# Altium integrated library Linear Technology Power Management Switching Regulator LTC1174-LTC3901.IntLib: 2647 symbols (part 78 of 364)
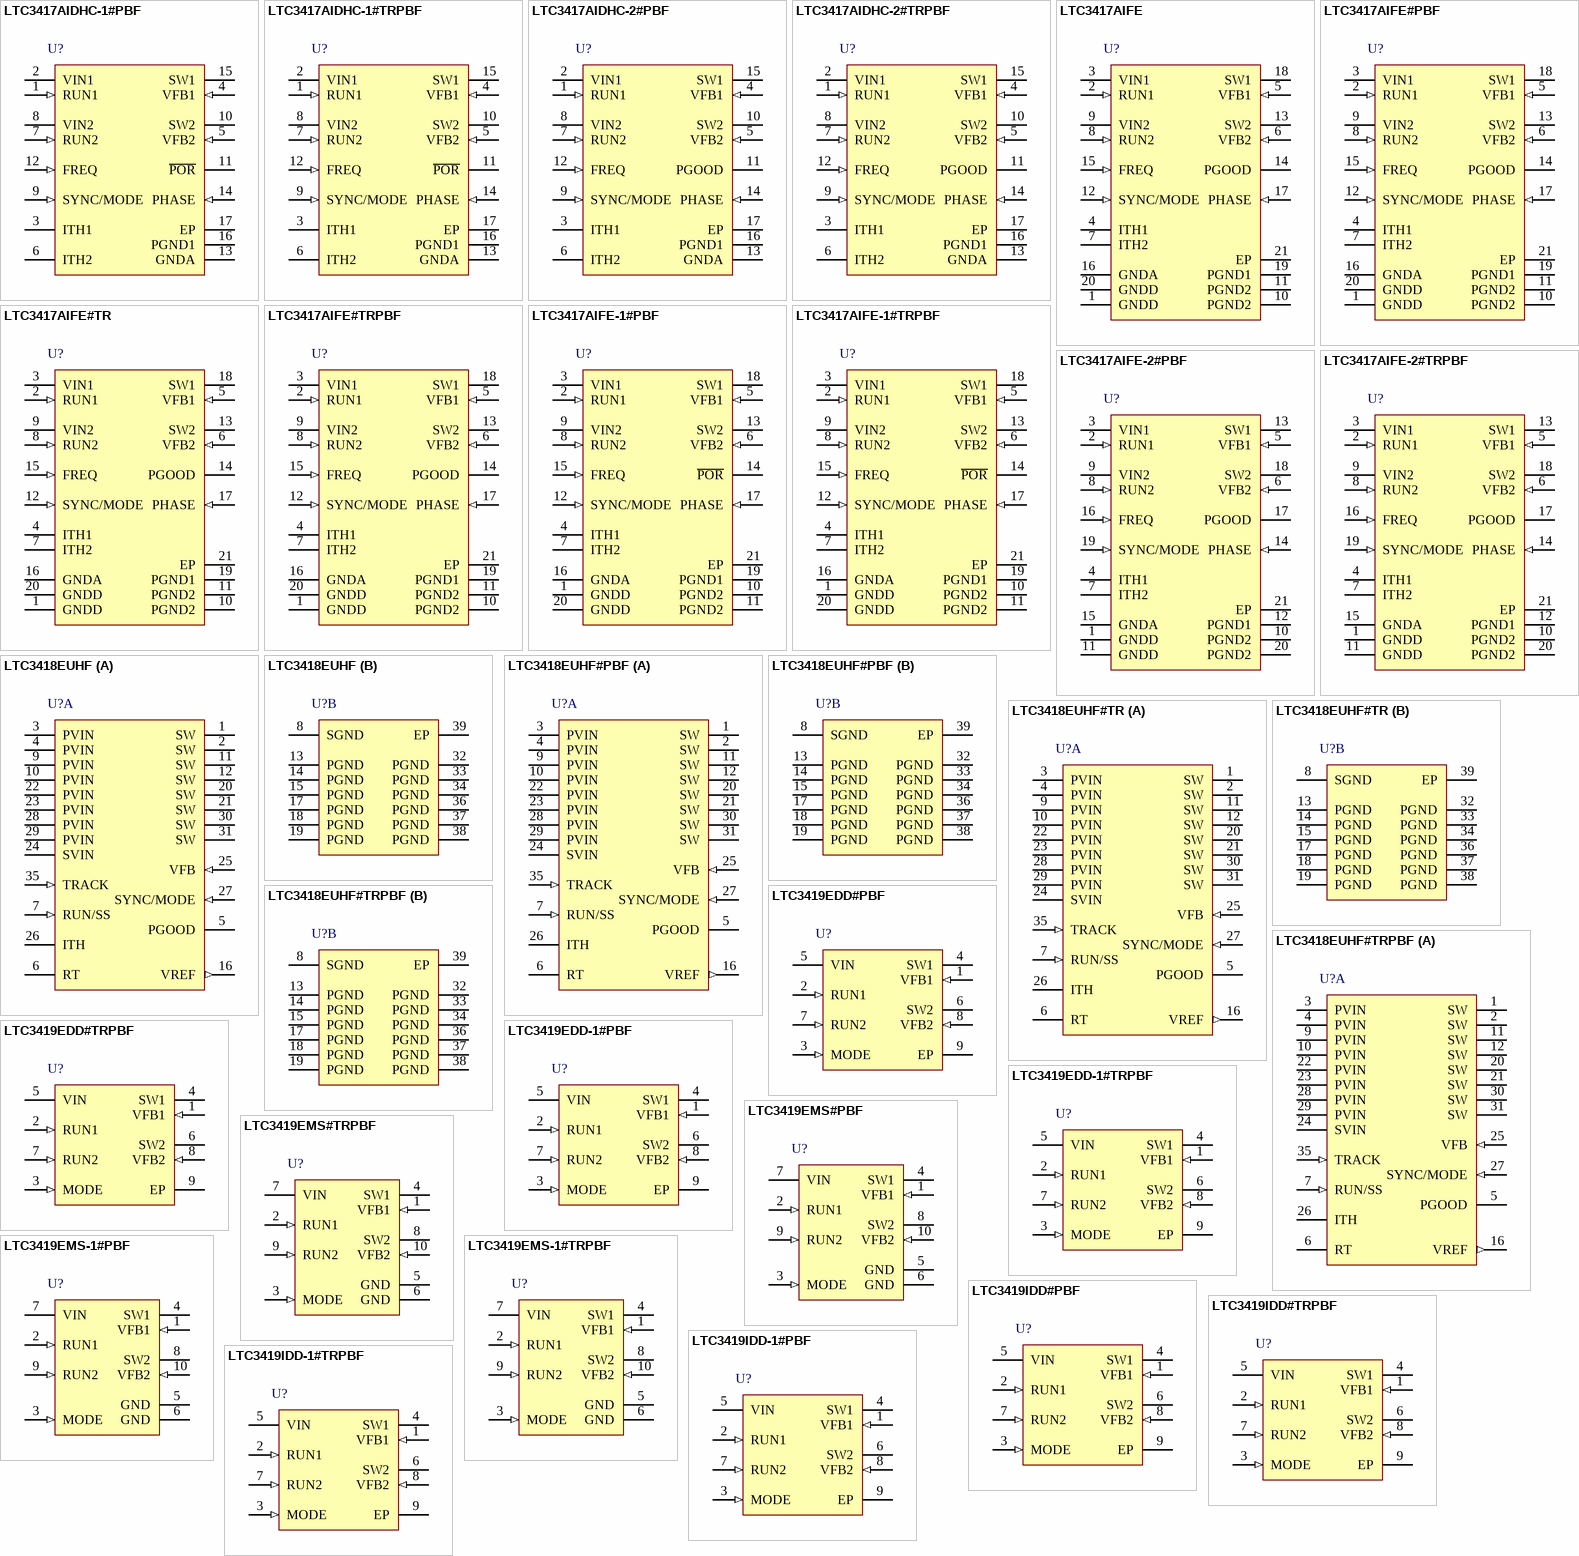
[diagram p155: symbols LTC3417AIDHC-1#PBF to LTC3419IDD-1#TRPBF]

## LTC3417AIDHC-2#TRPBF
designator U?
Dual Synchronous 1.5 A / 1 A 4 MHz Step-Down DC/DC Regulator, 16-pin SON (DHC-16), -40 to 125 degC, Pb-Free, Tape and Reel; Manufacturer: Linear Technology; PartNumber: LTC3417AIDHC-2#TRPBF; Frequency Sync Range: 600kHz - 4MHz; Number of Outputs: 2; DatasheetVersion: Rev. A; PackageVersion: Jun-10; PackageReference: DHC-16; PackageDescription: 16-Pin Plastic DFN, Body 5 x 3 mm, Pitch 0.5 mm; Supplier 1: Digi-Key; Supplier Part Number 1: LTC3417AIDHC-2#TRPBF-ND; Packing: Tape and Reel; RoHS: TRUE; Mounting Technology: Surface Mount; Code_JEDEC: MO-229; ComponentLink1Description: Manufacturer URL; ComponentLink1URL: http://www.linear.com/; ComponentLink2Description: Datasheet; ComponentLink2URL: http://cds.linear.com/docs/en/datasheet/3417a2fa.pdf; ComponentLink3Description: Package Specification; ComponentLink3URL: http://cds.linear.com/docs/en/packaging/DFN_16_05-08-1706.pdf
footprint LT-DHC-16_V (SON, 16-Leads, Body 5x3mm, Pitch 0.5mm, Thermal Pad 4.4X1.65mm)
pins: 1 RUN1 (in) "Enable for 1.5A Regulator. When at Logic 1, 1.5A regulator is running. When at 0V, 1.5A regulator is off. When both RUN1 and RUN2 are at 0V, the part is in shutdown.", 2 VIN1 (power) "Supply Pin for P-Channel Switch of 1.5A Regulator.", 3 ITH1 "Error Amplifier Compensation Point for 1.5A Regulator. The current comparator threshold increases with this control voltage. Nominal voltage range for this pin is 0V to 1.5V.", 4 VFB1 (in) "Receives the feedback voltage from external resistive divider across the 1.5A regulator output. Nominal voltage for this pin is 0.8V.", 5 VFB2 (in) "Receives the feedback voltage from external resistive divider across the 1A regulator output. Nominal voltage for this pin is 0.8V.", 6 ITH2 "Error Amplifier Compensation Point for 1A regulator. The current comparator threshold increases with this control voltage. Nominal voltage range for this pin is 0V to 1.5V.", 7 RUN2 (in) "Enable for 1A Regulator. When at Logic 1, 1A regulator is running. When at 0V, 1A regulator is off. When both RUN1 and RUN2 are at 0V, the part is in shutdown.", 8 VIN2 (power) "Supply Pin for P-Channel Switch of 1A Regulator and Supply for Analog Circuitry.", 9 SYNC/MODE (in) "Combination Mode Selection and Oscillator Synchronization Pin. This pin controls the operation of the device. When the voltage on the SYNC/MODE pin is >(VIN- 0.5V), Burst Mode operation is selected. When the voltage on the (See Datasheet)", 10 SW2 (power) "Switch Node Connection to the Inductor for the 1A Regulator. This pin swings from VIN2 to PGND2.", 11 PGOOD (oc) "Power Good Pin. This common drain-logic output is pulled to GND when the output voltage of either regulator is -6% below regulation. If either RUN1 or RUN2 is low (the respective regulator is in sleep mode and therefore the (See Datasheet)", 12 FREQ (in) "Frequency Set Pin. When FREQ is at VIN, internal oscillator runs at 1.5MHz. When a resistor is connected from this pin to ground, the internal oscillator frequency can be varied from 0.6MHz to 4MHz.", 13 GNDA (power) "Analog Ground Pin for Internal Analog Circuitry.", 14 PHASE (in) "Selects 1A regulator switching phase with respect to 1.5A regulator switching. Set to VIN, the 1.5A regulator and the 1A regulator are in phase. When PHASE is at 0V, the 1.5A regulator and the 1A regulator are switching 180 (See Datasheet)", 15 SW1 (power) "Switch Node Connection to the Inductor for the 1.5A Regulator. This pin swings from VIN1 to PGND1.", 16 PGND1 (power) "Ground for SW1 N-Channel Driver.", 17 EP (power) "Ground for SW2 N-channel driver and digital ground for circuit. The Exposed Pad must be soldered to PCB ground."

## LTC3417AIFE
designator U?
Dual Synchronous 1.5 A / 1 A 4 MHz Step-Down DC/DC Regulator, 20-pin SOP (FE-20-EPV-CA), -40 to 85 degC; Manufacturer: Linear Technology; PartNumber: LTC3417AIFE; Number of Outputs: 2; DatasheetVersion: Rev. C; PackageVersion: Rev. I, 05/2011; PackageReference: FE-20; PackageDescription: 20-Pin Plastic TSSOP, Body 6.5 x 4.4 mm, Pitch 0.65 mm; RoHS: FALSE; Mounting Technology: Surface Mount; ComponentLink1Description: Manufacturer URL; ComponentLink1URL: http://www.linear.com/; ComponentLink2Description: Datasheet; ComponentLink2URL: http://cds.linear.com/docs/en/datasheet/3417afc.pdf; ComponentLink3Description: Package Specification; ComponentLink3URL: http://cds.linear.com/docs/en/packaging/05081663__JFE20(CA).pdf
footprint LT-FE-20-EPV-CA_N (SOP, 20-Leads, Body 6.6x4.5mm, Pitch 0.65mm, Thermal Pad 4.95x2.74mm, IPC Medium Density)
footprint LT-FE-20-EPV-CA_L (SOP, 20-Leads, Body 6.6x4.5mm, Pitch 0.65mm, Thermal Pad 4.95x2.74mm, IPC High Density)
footprint LT-FE-20-EPV-CA_M (SOP, 20-Leads, Body 6.6x4.5mm, Pitch 0.65mm, Thermal Pad 4.95x2.74mm, IPC Low Density)
pins: 1 GNDD (power) "TSSOP Package Only. Ground for SW2 N-channel driver and digital ground for circuit.", 2 RUN1 (in) "Enable for 1.5A Regulator. When at Logic 1, 1.5A regulator is running. When at 0V, 1.5A regulator is off. When both RUN1 and RUN2 are at 0V, the part is in shutdown.", 3 VIN1 (power) "Supply Pin for P-Channel Switch of 1.5A Regulator.", 4 ITH1 "Error Amplifier Compensation Point for 1.5A Regulator. The current comparator threshold increases with this control voltage. Nominal voltage range for this pin is 0V to 1.5V.", 5 VFB1 (in) "Receives the feedback voltage from external resistive divider across the 1.5A regulator output. Nominal voltage for this pin is 0.8V", 6 VFB2 (in) "Receives the feedback voltage from external resistive divider across the 1A regulator output. Nominal voltage for this pin is 0.8V.", 7 ITH2 "Error Amplifier Compensation Point for 1A regulator. The current comparator threshold increases with this control voltage. Nominal voltage range for this pin is 0V to 1.5V.", 8 RUN2 (in) "Enable for 1A Regulator. When at Logic 1, 1A regulator is running. When at 0V, 1A regulator is off. When both RUN1 and RUN2 are at 0V, the part is in shutdown", 9 VIN2 (power) "Supply Pin for P-Channel Switch of 1A Regulator and Supply for Analog Circuitry.", 10 PGND2 (power) "TSSOP Package Only. Ground for SW2 N-channel driver and digital ground for circuit.", 11 PGND2 (power) "TSSOP Package Only. Ground for SW2 N-channel driver and digital ground for circuit.", 12 SYNC/MODE (in) "Combination Mode Selection and Oscillator Synchronization Pin. This pin controls the operation of the device. When the voltage on the SYNC/MODE pin is >(VIN - 0.5V), Burst Mode operation is selected. When the voltage on the (See Datasheet)", 13 SW2 (power) "Switch Node Connection to the Inductor for the 1A Regulator. This pin swings from VIN2 to PGND2.", 14 PGOOD (oc) "Power Good Pin. This common drain-logic output is pulled to GND when the output voltage of either regulator is - 6% of regulation. If either RUN1 or RUN2 is low (the respective regulator is in sleep mode and therefore the (See Datasheet)", 15 FREQ (in) "Frequency Set Pin. When FREQ is at VIN, internal oscillator runs at 1.5MHz. When a resistor is connected from this pin to ground, the internal oscillator frequency can be varied from 0.6MHz to 4MHz.", 16 GNDA (power) "Analog Ground Pin for Internal Analog Circuitry.", 17 PHASE (in) "Selects 1A regulator switching phase with respect to 1.5A regulator switching. Set to VIN, the 1.5A regulator and the 1A regulator are in phase. When PHASE is at 0V, the 1.5A regulator and the 1A regulator are switching 180 (See Datasheet)", 18 SW1 (power) "Switch Node Connection to the Inductor for the 1.5A Regulator. This pin swings from VIN1 to PGND1.", 19 PGND1 (power) "Ground for SW1 N-Channel Driver.", 20 GNDD (power) "TSSOP Package Only. Ground for SW2 N-channel driver and digital ground for circuit.", 21 EP (power) "PGND2, GNDD. Ground for SW2 N-channel driver and digital ground for circuit. The Exposed Pad must be soldered to PCB ground."

## LTC3417AIFE#PBF
designator U?
Dual Synchronous 1.5 A / 1 A 4 MHz Step-Down DC/DC Regulator, 20-pin SOP (FE-20-EPV-CA), -40 to 85 degC, Pb-Free; Manufacturer: Linear Technology; PartNumber: LTC3417AIFE#PBF; Number of Outputs: 2; DatasheetVersion: Rev. C; PackageVersion: Rev. I, 05/2011; PackageReference: FE-20; PackageDescription: 20-Pin Plastic TSSOP, Body 6.5 x 4.4 mm, Pitch 0.65 mm; Supplier 1: Digi-Key; Supplier Part Number 1: LTC3417AIFE#PBF-ND; Supplier 2: Newark; Supplier Part Number 2: 56M7733; RoHS: TRUE; Mounting Technology: Surface Mount; ComponentLink1Description: Manufacturer URL; ComponentLink1URL: http://www.linear.com/; ComponentLink2Description: Datasheet; ComponentLink2URL: http://cds.linear.com/docs/en/datasheet/3417afc.pdf; ComponentLink3Description: Package Specification; ComponentLink3URL: http://cds.linear.com/docs/en/packaging/05081663__JFE20(CA).pdf
footprint LT-FE-20-EPV-CA_N (SOP, 20-Leads, Body 6.6x4.5mm, Pitch 0.65mm, Thermal Pad 4.95x2.74mm, IPC Medium Density)
footprint LT-FE-20-EPV-CA_L (SOP, 20-Leads, Body 6.6x4.5mm, Pitch 0.65mm, Thermal Pad 4.95x2.74mm, IPC High Density)
footprint LT-FE-20-EPV-CA_M (SOP, 20-Leads, Body 6.6x4.5mm, Pitch 0.65mm, Thermal Pad 4.95x2.74mm, IPC Low Density)
pins: 1 GNDD (power) "TSSOP Package Only. Ground for SW2 N-channel driver and digital ground for circuit.", 2 RUN1 (in) "Enable for 1.5A Regulator. When at Logic 1, 1.5A regulator is running. When at 0V, 1.5A regulator is off. When both RUN1 and RUN2 are at 0V, the part is in shutdown.", 3 VIN1 (power) "Supply Pin for P-Channel Switch of 1.5A Regulator.", 4 ITH1 "Error Amplifier Compensation Point for 1.5A Regulator. The current comparator threshold increases with this control voltage. Nominal voltage range for this pin is 0V to 1.5V.", 5 VFB1 (in) "Receives the feedback voltage from external resistive divider across the 1.5A regulator output. Nominal voltage for this pin is 0.8V", 6 VFB2 (in) "Receives the feedback voltage from external resistive divider across the 1A regulator output. Nominal voltage for this pin is 0.8V.", 7 ITH2 "Error Amplifier Compensation Point for 1A regulator. The current comparator threshold increases with this control voltage. Nominal voltage range for this pin is 0V to 1.5V.", 8 RUN2 (in) "Enable for 1A Regulator. When at Logic 1, 1A regulator is running. When at 0V, 1A regulator is off. When both RUN1 and RUN2 are at 0V, the part is in shutdown", 9 VIN2 (power) "Supply Pin for P-Channel Switch of 1A Regulator and Supply for Analog Circuitry.", 10 PGND2 (power) "TSSOP Package Only. Ground for SW2 N-channel driver and digital ground for circuit.", 11 PGND2 (power) "TSSOP Package Only. Ground for SW2 N-channel driver and digital ground for circuit.", 12 SYNC/MODE (in) "Combination Mode Selection and Oscillator Synchronization Pin. This pin controls the operation of the device. When the voltage on the SYNC/MODE pin is >(VIN - 0.5V), Burst Mode operation is selected. When the voltage on the (See Datasheet)", 13 SW2 (power) "Switch Node Connection to the Inductor for the 1A Regulator. This pin swings from VIN2 to PGND2.", 14 PGOOD (oc) "Power Good Pin. This common drain-logic output is pulled to GND when the output voltage of either regulator is - 6% of regulation. If either RUN1 or RUN2 is low (the respective regulator is in sleep mode and therefore the (See Datasheet)", 15 FREQ (in) "Frequency Set Pin. When FREQ is at VIN, internal oscillator runs at 1.5MHz. When a resistor is connected from this pin to ground, the internal oscillator frequency can be varied from 0.6MHz to 4MHz.", 16 GNDA (power) "Analog Ground Pin for Internal Analog Circuitry.", 17 PHASE (in) "Selects 1A regulator switching phase with respect to 1.5A regulator switching. Set to VIN, the 1.5A regulator and the 1A regulator are in phase. When PHASE is at 0V, the 1.5A regulator and the 1A regulator are switching 180 (See Datasheet)", 18 SW1 (power) "Switch Node Connection to the Inductor for the 1.5A Regulator. This pin swings from VIN1 to PGND1.", 19 PGND1 (power) "Ground for SW1 N-Channel Driver.", 20 GNDD (power) "TSSOP Package Only. Ground for SW2 N-channel driver and digital ground for circuit.", 21 EP (power) "PGND2, GNDD. Ground for SW2 N-channel driver and digital ground for circuit. The Exposed Pad must be soldered to PCB ground."

## LTC3417AIFE#TR
designator U?
Dual Synchronous 1.5 A / 1 A 4 MHz Step-Down DC/DC Regulator, 20-pin SOP (FE-20-EPV-CA), -40 to 85 degC, Tape and Reel; Manufacturer: Linear Technology; PartNumber: LTC3417AIFE#TR; Number of Outputs: 2; DatasheetVersion: Rev. C; PackageVersion: Rev. I, 05/2011; PackageReference: FE-20; PackageDescription: 20-Pin Plastic TSSOP, Body 6.5 x 4.4 mm, Pitch 0.65 mm; Packing: Tape and Reel; RoHS: FALSE; Mounting Technology: Surface Mount; ComponentLink1Description: Manufacturer URL; ComponentLink1URL: http://www.linear.com/; ComponentLink2Description: Datasheet; ComponentLink2URL: http://cds.linear.com/docs/en/datasheet/3417afc.pdf; ComponentLink3Description: Package Specification; ComponentLink3URL: http://cds.linear.com/docs/en/packaging/05081663__JFE20(CA).pdf
footprint LT-FE-20-EPV-CA_N (SOP, 20-Leads, Body 6.6x4.5mm, Pitch 0.65mm, Thermal Pad 4.95x2.74mm, IPC Medium Density)
footprint LT-FE-20-EPV-CA_L (SOP, 20-Leads, Body 6.6x4.5mm, Pitch 0.65mm, Thermal Pad 4.95x2.74mm, IPC High Density)
footprint LT-FE-20-EPV-CA_M (SOP, 20-Leads, Body 6.6x4.5mm, Pitch 0.65mm, Thermal Pad 4.95x2.74mm, IPC Low Density)
pins: 1 GNDD (power) "TSSOP Package Only. Ground for SW2 N-channel driver and digital ground for circuit.", 2 RUN1 (in) "Enable for 1.5A Regulator. When at Logic 1, 1.5A regulator is running. When at 0V, 1.5A regulator is off. When both RUN1 and RUN2 are at 0V, the part is in shutdown.", 3 VIN1 (power) "Supply Pin for P-Channel Switch of 1.5A Regulator.", 4 ITH1 "Error Amplifier Compensation Point for 1.5A Regulator. The current comparator threshold increases with this control voltage. Nominal voltage range for this pin is 0V to 1.5V.", 5 VFB1 (in) "Receives the feedback voltage from external resistive divider across the 1.5A regulator output. Nominal voltage for this pin is 0.8V", 6 VFB2 (in) "Receives the feedback voltage from external resistive divider across the 1A regulator output. Nominal voltage for this pin is 0.8V.", 7 ITH2 "Error Amplifier Compensation Point for 1A regulator. The current comparator threshold increases with this control voltage. Nominal voltage range for this pin is 0V to 1.5V.", 8 RUN2 (in) "Enable for 1A Regulator. When at Logic 1, 1A regulator is running. When at 0V, 1A regulator is off. When both RUN1 and RUN2 are at 0V, the part is in shutdown", 9 VIN2 (power) "Supply Pin for P-Channel Switch of 1A Regulator and Supply for Analog Circuitry.", 10 PGND2 (power) "TSSOP Package Only. Ground for SW2 N-channel driver and digital ground for circuit.", 11 PGND2 (power) "TSSOP Package Only. Ground for SW2 N-channel driver and digital ground for circuit.", 12 SYNC/MODE (in) "Combination Mode Selection and Oscillator Synchronization Pin. This pin controls the operation of the device. When the voltage on the SYNC/MODE pin is >(VIN - 0.5V), Burst Mode operation is selected. When the voltage on the (See Datasheet)", 13 SW2 (power) "Switch Node Connection to the Inductor for the 1A Regulator. This pin swings from VIN2 to PGND2.", 14 PGOOD (oc) "Power Good Pin. This common drain-logic output is pulled to GND when the output voltage of either regulator is - 6% of regulation. If either RUN1 or RUN2 is low (the respective regulator is in sleep mode and therefore the (See Datasheet)", 15 FREQ (in) "Frequency Set Pin. When FREQ is at VIN, internal oscillator runs at 1.5MHz. When a resistor is connected from this pin to ground, the internal oscillator frequency can be varied from 0.6MHz to 4MHz.", 16 GNDA (power) "Analog Ground Pin for Internal Analog Circuitry.", 17 PHASE (in) "Selects 1A regulator switching phase with respect to 1.5A regulator switching. Set to VIN, the 1.5A regulator and the 1A regulator are in phase. When PHASE is at 0V, the 1.5A regulator and the 1A regulator are switching 180 (See Datasheet)", 18 SW1 (power) "Switch Node Connection to the Inductor for the 1.5A Regulator. This pin swings from VIN1 to PGND1.", 19 PGND1 (power) "Ground for SW1 N-Channel Driver.", 20 GNDD (power) "TSSOP Package Only. Ground for SW2 N-channel driver and digital ground for circuit.", 21 EP (power) "PGND2, GNDD. Ground for SW2 N-channel driver and digital ground for circuit. The Exposed Pad must be soldered to PCB ground."

## LTC3417AIFE#TRPBF
designator U?
Dual Synchronous 1.5 A / 1 A 4 MHz Step-Down DC/DC Regulator, 20-pin SOP (FE-20-EPV-CA), -40 to 85 degC, Pb-Free, Tape and Reel; Manufacturer: Linear Technology; PartNumber: LTC3417AIFE#TRPBF; Number of Outputs: 2; DatasheetVersion: Rev. C; PackageVersion: Rev. I, 05/2011; PackageReference: FE-20; PackageDescription: 20-Pin Plastic TSSOP, Body 6.5 x 4.4 mm, Pitch 0.65 mm; Supplier 1: Digi-Key; Supplier Part Number 1: LTC3417AIFE#TRPBF-ND; Packing: Tape and Reel; RoHS: TRUE; Mounting Technology: Surface Mount; ComponentLink1Description: Manufacturer URL; ComponentLink1URL: http://www.linear.com/; ComponentLink2Description: Datasheet; ComponentLink2URL: http://cds.linear.com/docs/en/datasheet/3417afc.pdf; ComponentLink3Description: Package Specification; ComponentLink3URL: http://cds.linear.com/docs/en/packaging/05081663__JFE20(CA).pdf
footprint LT-FE-20-EPV-CA_N (SOP, 20-Leads, Body 6.6x4.5mm, Pitch 0.65mm, Thermal Pad 4.95x2.74mm, IPC Medium Density)
footprint LT-FE-20-EPV-CA_L (SOP, 20-Leads, Body 6.6x4.5mm, Pitch 0.65mm, Thermal Pad 4.95x2.74mm, IPC High Density)
footprint LT-FE-20-EPV-CA_M (SOP, 20-Leads, Body 6.6x4.5mm, Pitch 0.65mm, Thermal Pad 4.95x2.74mm, IPC Low Density)
pins: 1 GNDD (power) "TSSOP Package Only. Ground for SW2 N-channel driver and digital ground for circuit.", 2 RUN1 (in) "Enable for 1.5A Regulator. When at Logic 1, 1.5A regulator is running. When at 0V, 1.5A regulator is off. When both RUN1 and RUN2 are at 0V, the part is in shutdown.", 3 VIN1 (power) "Supply Pin for P-Channel Switch of 1.5A Regulator.", 4 ITH1 "Error Amplifier Compensation Point for 1.5A Regulator. The current comparator threshold increases with this control voltage. Nominal voltage range for this pin is 0V to 1.5V.", 5 VFB1 (in) "Receives the feedback voltage from external resistive divider across the 1.5A regulator output. Nominal voltage for this pin is 0.8V", 6 VFB2 (in) "Receives the feedback voltage from external resistive divider across the 1A regulator output. Nominal voltage for this pin is 0.8V.", 7 ITH2 "Error Amplifier Compensation Point for 1A regulator. The current comparator threshold increases with this control voltage. Nominal voltage range for this pin is 0V to 1.5V.", 8 RUN2 (in) "Enable for 1A Regulator. When at Logic 1, 1A regulator is running. When at 0V, 1A regulator is off. When both RUN1 and RUN2 are at 0V, the part is in shutdown", 9 VIN2 (power) "Supply Pin for P-Channel Switch of 1A Regulator and Supply for Analog Circuitry.", 10 PGND2 (power) "TSSOP Package Only. Ground for SW2 N-channel driver and digital ground for circuit.", 11 PGND2 (power) "TSSOP Package Only. Ground for SW2 N-channel driver and digital ground for circuit.", 12 SYNC/MODE (in) "Combination Mode Selection and Oscillator Synchronization Pin. This pin controls the operation of the device. When the voltage on the SYNC/MODE pin is >(VIN - 0.5V), Burst Mode operation is selected. When the voltage on the (See Datasheet)", 13 SW2 (power) "Switch Node Connection to the Inductor for the 1A Regulator. This pin swings from VIN2 to PGND2.", 14 PGOOD (oc) "Power Good Pin. This common drain-logic output is pulled to GND when the output voltage of either regulator is - 6% of regulation. If either RUN1 or RUN2 is low (the respective regulator is in sleep mode and therefore the (See Datasheet)", 15 FREQ (in) "Frequency Set Pin. When FREQ is at VIN, internal oscillator runs at 1.5MHz. When a resistor is connected from this pin to ground, the internal oscillator frequency can be varied from 0.6MHz to 4MHz.", 16 GNDA (power) "Analog Ground Pin for Internal Analog Circuitry.", 17 PHASE (in) "Selects 1A regulator switching phase with respect to 1.5A regulator switching. Set to VIN, the 1.5A regulator and the 1A regulator are in phase. When PHASE is at 0V, the 1.5A regulator and the 1A regulator are switching 180 (See Datasheet)", 18 SW1 (power) "Switch Node Connection to the Inductor for the 1.5A Regulator. This pin swings from VIN1 to PGND1.", 19 PGND1 (power) "Ground for SW1 N-Channel Driver.", 20 GNDD (power) "TSSOP Package Only. Ground for SW2 N-channel driver and digital ground for circuit.", 21 EP (power) "PGND2, GNDD. Ground for SW2 N-channel driver and digital ground for circuit. The Exposed Pad must be soldered to PCB ground."

## LTC3417AIFE-1#PBF
designator U?
Dual Synchronous 1.5 A / 1 A 4 MHz Step-Down DC/DC Regulator with POR, 20-pin SOP (FE-20-EPV-CA), -40 to 125 degC, Pb-Free; Manufacturer: Linear Technology; PartNumber: LTC3417AIFE-1#PBF; Frequency Sync Range: 600kHz - 4MHz; Number of Outputs: 2; DatasheetVersion: Rev. A; PackageVersion: Rev. I, 05/2011; PackageReference: FE-20; PackageDescription: 20-Pin Plastic TSSOP, Body 6.5 x 4.4 mm, Pitch 0.65 mm; Supplier 1: Digi-Key; Supplier Part Number 1: LTC3417AIFE-1#PBF-ND; RoHS: TRUE; Mounting Technology: Surface Mount; ComponentLink1Description: Manufacturer URL; ComponentLink1URL: http://www.linear.com/; ComponentLink2Description: Datasheet; ComponentLink2URL: http://cds.linear.com/docs/en/datasheet/3417a1fa.pdf; ComponentLink3Description: Package Specification; ComponentLink3URL: http://cds.linear.com/docs/en/packaging/05081663__JFE20(CA).pdf
footprint LT-FE-20-EPV-CA_N (SOP, 20-Leads, Body 6.6x4.5mm, Pitch 0.65mm, Thermal Pad 4.95x2.74mm, IPC Medium Density)
footprint LT-FE-20-EPV-CA_L (SOP, 20-Leads, Body 6.6x4.5mm, Pitch 0.65mm, Thermal Pad 4.95x2.74mm, IPC High Density)
footprint LT-FE-20-EPV-CA_M (SOP, 20-Leads, Body 6.6x4.5mm, Pitch 0.65mm, Thermal Pad 4.95x2.74mm, IPC Low Density)
pins: 1 GNDD (power) "TSSOP Package Only. Ground for SW2 N-channel driver and digital ground for circuit.", 2 RUN1 (in) "Enable for 1.5A Regulator. When at Logic 1, 1.5A regulator is running. When at 0V, 1.5A regulator is off. When both RUN1 and RUN2 are at 0V, the part is in shutdown.", 3 VIN1 (power) "Supply Pin for P-Channel Switch of 1.5A Regulator.", 4 ITH1 "Error Amplifier Compensation Point for 1.5A Regulator. The current comparator threshold increases with this control voltage. Nominal voltage range for this pin is 0V to 1.5V.", 5 VFB1 (in) "Receives the feedback voltage from external resistive divider across the 1.5A regulator output. Nominal voltage for this pin is 0.8V.", 6 VFB2 (in) "Receives the feedback voltage from external resistive divider across the 1A regulator output. Nominal voltage for this pin is 0.8V.", 7 ITH2 "Error Amplifier Compensation Point for 1A regulator. The current comparator threshold increases with this control voltage. Nominal voltage range for this pin is 0V to 1.5V.", 8 RUN2 (in) "Enable for 1A Regulator. When at Logic 1, 1A regulator is running. When at 0V, 1A regulator is off. When both RUN1 and RUN2 are at 0V, the part is in shutdown.", 9 VIN2 (power) "Supply Pin for P-Channel Switch of 1A Regulator and Supply for Analog Circuitry.", 10 PGND2 (power) "TSSOP Package Only. Ground for SW2 N-channel driver and digital ground for circuit.", 11 PGND2 (power) "TSSOP Package Only. Ground for SW2 N-channel driver and digital ground for circuit.", 12 SYNC/MODE (in) "Combination Mode Selection and Oscillator Synchronization Pin. This pin controls the operation of the device. When the voltage on the SYNC/MODE pin is >(VIN - 0.5V), Burst Mode operation is selected. When the voltage on the (See Datasheet)", 13 SW2 (power) "Switch Node Connection to the Inductor for the 1A Regulator. This pin swings from VIN2 to PGND2.", 14 ~{POR} (oc) "The Power-On-Reset Pin. This open drain-logic output is pulled to GND when the output voltage of either regulator falls 8% below regulation and goes high approximately 150ms after both regulators are above -6% of regulation. (See Datasheet)", 15 FREQ (in) "Frequency Set Pin. When FREQ is at VIN, internal oscillator runs at 1.5MHz. When a resistor is connected from this pin to ground, the internal oscillator frequency can be varied from 0.6MHz to 4MHz.", 16 GNDA (power) "Analog Ground Pin for Internal Analog Circuitry.", 17 PHASE (in) "Selects 1A regulator switching phase with respect to 1.5A regulator switching. Set to VIN, the 1.5A regulator and the 1A regulator are in phase. When PHASE is at 0V, the 1.5A regulator and the 1A regulator are switching 180 (See Datasheet)", 18 SW1 (power) "Switch Node Connection to the Inductor for the 1.5A Regulator. This pin swings from VIN1 to PGND1", 19 PGND1 (power) "Ground for SW1 N-Channel Driver.", 20 GNDD (power) "TSSOP Package Only. Ground for SW2 N-channel driver and digital ground for circuit.", 21 EP (power) "PGND2, GNDD. Ground for SW2 N-channel driver and digital ground for circuit. The Exposed Pad must be soldered to PCB ground"

## LTC3417AIFE-1#TRPBF
designator U?
Dual Synchronous 1.5 A / 1 A 4 MHz Step-Down DC/DC Regulator with POR, 20-pin SOP (FE-20-EPV-CA), -40 to 125 degC, Pb-Free, Tape and Reel; Manufacturer: Linear Technology; PartNumber: LTC3417AIFE-1#TRPBF; Frequency Sync Range: 600kHz - 4MHz; Number of Outputs: 2; DatasheetVersion: Rev. A; PackageVersion: Rev. I, 05/2011; PackageReference: FE-20; PackageDescription: 20-Pin Plastic TSSOP, Body 6.5 x 4.4 mm, Pitch 0.65 mm; Supplier 1: Digi-Key; Supplier Part Number 1: LTC3417AIFE-1#TRPBF-ND; Packing: Tape and Reel; RoHS: TRUE; Mounting Technology: Surface Mount; ComponentLink1Description: Manufacturer URL; ComponentLink1URL: http://www.linear.com/; ComponentLink2Description: Datasheet; ComponentLink2URL: http://cds.linear.com/docs/en/datasheet/3417a1fa.pdf; ComponentLink3Description: Package Specification; ComponentLink3URL: http://cds.linear.com/docs/en/packaging/05081663__JFE20(CA).pdf
footprint LT-FE-20-EPV-CA_N (SOP, 20-Leads, Body 6.6x4.5mm, Pitch 0.65mm, Thermal Pad 4.95x2.74mm, IPC Medium Density)
footprint LT-FE-20-EPV-CA_L (SOP, 20-Leads, Body 6.6x4.5mm, Pitch 0.65mm, Thermal Pad 4.95x2.74mm, IPC High Density)
footprint LT-FE-20-EPV-CA_M (SOP, 20-Leads, Body 6.6x4.5mm, Pitch 0.65mm, Thermal Pad 4.95x2.74mm, IPC Low Density)
pins: 1 GNDD (power) "TSSOP Package Only. Ground for SW2 N-channel driver and digital ground for circuit.", 2 RUN1 (in) "Enable for 1.5A Regulator. When at Logic 1, 1.5A regulator is running. When at 0V, 1.5A regulator is off. When both RUN1 and RUN2 are at 0V, the part is in shutdown.", 3 VIN1 (power) "Supply Pin for P-Channel Switch of 1.5A Regulator.", 4 ITH1 "Error Amplifier Compensation Point for 1.5A Regulator. The current comparator threshold increases with this control voltage. Nominal voltage range for this pin is 0V to 1.5V.", 5 VFB1 (in) "Receives the feedback voltage from external resistive divider across the 1.5A regulator output. Nominal voltage for this pin is 0.8V.", 6 VFB2 (in) "Receives the feedback voltage from external resistive divider across the 1A regulator output. Nominal voltage for this pin is 0.8V.", 7 ITH2 "Error Amplifier Compensation Point for 1A regulator. The current comparator threshold increases with this control voltage. Nominal voltage range for this pin is 0V to 1.5V.", 8 RUN2 (in) "Enable for 1A Regulator. When at Logic 1, 1A regulator is running. When at 0V, 1A regulator is off. When both RUN1 and RUN2 are at 0V, the part is in shutdown.", 9 VIN2 (power) "Supply Pin for P-Channel Switch of 1A Regulator and Supply for Analog Circuitry.", 10 PGND2 (power) "TSSOP Package Only. Ground for SW2 N-channel driver and digital ground for circuit.", 11 PGND2 (power) "TSSOP Package Only. Ground for SW2 N-channel driver and digital ground for circuit.", 12 SYNC/MODE (in) "Combination Mode Selection and Oscillator Synchronization Pin. This pin controls the operation of the device. When the voltage on the SYNC/MODE pin is >(VIN - 0.5V), Burst Mode operation is selected. When the voltage on the (See Datasheet)", 13 SW2 (power) "Switch Node Connection to the Inductor for the 1A Regulator. This pin swings from VIN2 to PGND2.", 14 ~{POR} (oc) "The Power-On-Reset Pin. This open drain-logic output is pulled to GND when the output voltage of either regulator falls 8% below regulation and goes high approximately 150ms after both regulators are above -6% of regulation. (See Datasheet)", 15 FREQ (in) "Frequency Set Pin. When FREQ is at VIN, internal oscillator runs at 1.5MHz. When a resistor is connected from this pin to ground, the internal oscillator frequency can be varied from 0.6MHz to 4MHz.", 16 GNDA (power) "Analog Ground Pin for Internal Analog Circuitry.", 17 PHASE (in) "Selects 1A regulator switching phase with respect to 1.5A regulator switching. Set to VIN, the 1.5A regulator and the 1A regulator are in phase. When PHASE is at 0V, the 1.5A regulator and the 1A regulator are switching 180 (See Datasheet)", 18 SW1 (power) "Switch Node Connection to the Inductor for the 1.5A Regulator. This pin swings from VIN1 to PGND1", 19 PGND1 (power) "Ground for SW1 N-Channel Driver.", 20 GNDD (power) "TSSOP Package Only. Ground for SW2 N-channel driver and digital ground for circuit.", 21 EP (power) "PGND2, GNDD. Ground for SW2 N-channel driver and digital ground for circuit. The Exposed Pad must be soldered to PCB ground"

## LTC3417AIFE-2#PBF
designator U?
Dual Synchronous 1.5 A / 1 A 4 MHz Step-Down DC/DC Regulator, 20-pin SOP (FE-20-EPV-CA), -40 to 125 degC, Pb-Free; Manufacturer: Linear Technology; PartNumber: LTC3417AIFE-2#PBF; Frequency Sync Range: 600kHz - 4MHz; Number of Outputs: 2; DatasheetVersion: Rev. A; PackageVersion: Rev. I, 05/2011; PackageReference: FE-20; PackageDescription: 20-Pin Plastic TSSOP, Body 6.5 x 4.4 mm, Pitch 0.65 mm; Supplier 1: Digi-Key; Supplier Part Number 1: LTC3417AIFE-2#PBF-ND; Supplier 2: Farnell; Supplier Part Number 2: 1628880; Supplier 3: Newark; Supplier Part Number 3: 95M6500; RoHS: TRUE; Mounting Technology: Surface Mount; ComponentLink1Description: Manufacturer URL; ComponentLink1URL: http://www.linear.com/; ComponentLink2Description: Datasheet; ComponentLink2URL: http://cds.linear.com/docs/en/datasheet/3417a2fa.pdf; ComponentLink3Description: Package Specification; ComponentLink3URL: http://cds.linear.com/docs/en/packaging/05081663__JFE20(CA).pdf
footprint LT-FE-20-EPV-CA_N (SOP, 20-Leads, Body 6.6x4.5mm, Pitch 0.65mm, Thermal Pad 4.95x2.74mm, IPC Medium Density)
footprint LT-FE-20-EPV-CA_L (SOP, 20-Leads, Body 6.6x4.5mm, Pitch 0.65mm, Thermal Pad 4.95x2.74mm, IPC High Density)
footprint LT-FE-20-EPV-CA_M (SOP, 20-Leads, Body 6.6x4.5mm, Pitch 0.65mm, Thermal Pad 4.95x2.74mm, IPC Low Density)
pins: 1 GNDD (power) "TSSOP Package Only. Ground for SW2 N-channel driver and digital ground for circuit.", 2 RUN1 (in) "Enable for 1.5A Regulator. When at Logic 1, 1.5A regulator is running. When at 0V, 1.5A regulator is off. When both RUN1 and RUN2 are at 0V, the part is in shutdown.", 3 VIN1 (power) "Supply Pin for P-Channel Switch of 1.5A Regulator.", 4 ITH1 "Error Amplifier Compensation Point for 1.5A Regulator. The current comparator threshold increases with this control voltage. Nominal voltage range for this pin is 0V to 1.5V.", 5 VFB1 (in) "Receives the feedback voltage from external resistive divider across the 1.5A regulator output. Nominal voltage for this pin is 0.8V.", 6 VFB2 (in) "Receives the feedback voltage from external resistive divider across the 1A regulator output. Nominal voltage for this pin is 0.8V.", 7 ITH2 "Error Amplifier Compensation Point for 1A regulator. The current comparator threshold increases with this control voltage. Nominal voltage range for this pin is 0V to 1.5V.", 8 RUN2 (in) "Enable for 1A Regulator. When at Logic 1, 1A regulator is running. When at 0V, 1A regulator is off. When both RUN1 and RUN2 are at 0V, the part is in shutdown", 9 VIN2 (power) "Supply Pin for P-Channel Switch of 1A Regulator and Supply for Analog Circuitry", 10 PGND2 (power) "TSSOP Package Only. Ground for SW2 N-channel driver and digital ground for circuit.", 11 GNDD (power) "TSSOP Package Only. Ground for SW2 N-channel driver and digital ground for circuit.", 12 PGND1 (power) "Ground for SW1 N-Channel Driver.", 13 SW1 (power) "Switch Node Connection to the Inductor for the 1.5A Regulator. This pin swings from VIN1 to PGND1.", 14 PHASE (in) "Selects 1A regulator switching phase with respect to 1.5A regulator switching. Set to VIN, the 1.5A regulator and the 1A regulator are in phase. When PHASE is at 0V, the 1.5A regulator and the 1A regulator are switching 180 (See Datasheet)", 15 GNDA (power) "Analog Ground Pin for Internal Analog Circuitry.", 16 FREQ (in) "Frequency Set Pin. When FREQ is at VIN, internal oscillator runs at 1.5MHz. When a resistor is connected from this pin to ground, the internal oscillator frequency can be varied from 0.6MHz to 4MHz.", 17 PGOOD (oc) "Power Good Pin. This common drain-logic output is pulled to GND when the output voltage of either regulator is -6% below regulation. If either RUN1 or RUN2 is low (the respective regulator is in sleep mode and therefore the (See Datasheet)", 18 SW2 (power) "Switch Node Connection to the Inductor for the 1A Regulator. This pin swings from VIN2 to PGND2.", 19 SYNC/MODE (in) "Combination Mode Selection and Oscillator Synchronization Pin. This pin controls the operation of the device. When the voltage on the SYNC/MODE pin is >(VIN - 0.5V), Burst Mode operation is selected. When the voltage on the (See Datasheet)", 20 PGND2 (power) "TSSOP Package Only. Ground for SW2 N-channel driver and digital ground for circuit.", 21 EP (power) "PGND2, GNDD. Ground for SW2 N-channel driver and digital ground for circuit. The Exposed Pad must be soldered to PCB ground."

## LTC3417AIFE-2#TRPBF
designator U?
Dual Synchronous 1.5 A / 1 A 4 MHz Step-Down DC/DC Regulator, 20-pin SOP (FE-20-EPV-CA), -40 to 125 degC, Pb-Free, Tape and Reel; Manufacturer: Linear Technology; PartNumber: LTC3417AIFE-2#TRPBF; Frequency Sync Range: 600kHz - 4MHz; Number of Outputs: 2; DatasheetVersion: Rev. A; PackageVersion: Rev. I, 05/2011; PackageReference: FE-20; PackageDescription: 20-Pin Plastic TSSOP, Body 6.5 x 4.4 mm, Pitch 0.65 mm; Supplier 1: Digi-Key; Supplier Part Number 1: LTC3417AIFE-2#TRPBF-ND; Packing: Tape and Reel; RoHS: TRUE; Mounting Technology: Surface Mount; ComponentLink1Description: Manufacturer URL; ComponentLink1URL: http://www.linear.com/; ComponentLink2Description: Datasheet; ComponentLink2URL: http://cds.linear.com/docs/en/datasheet/3417a2fa.pdf; ComponentLink3Description: Package Specification; ComponentLink3URL: http://cds.linear.com/docs/en/packaging/05081663__JFE20(CA).pdf
footprint LT-FE-20-EPV-CA_N (SOP, 20-Leads, Body 6.6x4.5mm, Pitch 0.65mm, Thermal Pad 4.95x2.74mm, IPC Medium Density)
footprint LT-FE-20-EPV-CA_L (SOP, 20-Leads, Body 6.6x4.5mm, Pitch 0.65mm, Thermal Pad 4.95x2.74mm, IPC High Density)
footprint LT-FE-20-EPV-CA_M (SOP, 20-Leads, Body 6.6x4.5mm, Pitch 0.65mm, Thermal Pad 4.95x2.74mm, IPC Low Density)
pins: 1 GNDD (power) "TSSOP Package Only. Ground for SW2 N-channel driver and digital ground for circuit.", 2 RUN1 (in) "Enable for 1.5A Regulator. When at Logic 1, 1.5A regulator is running. When at 0V, 1.5A regulator is off. When both RUN1 and RUN2 are at 0V, the part is in shutdown.", 3 VIN1 (power) "Supply Pin for P-Channel Switch of 1.5A Regulator.", 4 ITH1 "Error Amplifier Compensation Point for 1.5A Regulator. The current comparator threshold increases with this control voltage. Nominal voltage range for this pin is 0V to 1.5V.", 5 VFB1 (in) "Receives the feedback voltage from external resistive divider across the 1.5A regulator output. Nominal voltage for this pin is 0.8V.", 6 VFB2 (in) "Receives the feedback voltage from external resistive divider across the 1A regulator output. Nominal voltage for this pin is 0.8V.", 7 ITH2 "Error Amplifier Compensation Point for 1A regulator. The current comparator threshold increases with this control voltage. Nominal voltage range for this pin is 0V to 1.5V.", 8 RUN2 (in) "Enable for 1A Regulator. When at Logic 1, 1A regulator is running. When at 0V, 1A regulator is off. When both RUN1 and RUN2 are at 0V, the part is in shutdown", 9 VIN2 (power) "Supply Pin for P-Channel Switch of 1A Regulator and Supply for Analog Circuitry", 10 PGND2 (power) "TSSOP Package Only. Ground for SW2 N-channel driver and digital ground for circuit.", 11 GNDD (power) "TSSOP Package Only. Ground for SW2 N-channel driver and digital ground for circuit.", 12 PGND1 (power) "Ground for SW1 N-Channel Driver.", 13 SW1 (power) "Switch Node Connection to the Inductor for the 1.5A Regulator. This pin swings from VIN1 to PGND1.", 14 PHASE (in) "Selects 1A regulator switching phase with respect to 1.5A regulator switching. Set to VIN, the 1.5A regulator and the 1A regulator are in phase. When PHASE is at 0V, the 1.5A regulator and the 1A regulator are switching 180 (See Datasheet)", 15 GNDA (power) "Analog Ground Pin for Internal Analog Circuitry.", 16 FREQ (in) "Frequency Set Pin. When FREQ is at VIN, internal oscillator runs at 1.5MHz. When a resistor is connected from this pin to ground, the internal oscillator frequency can be varied from 0.6MHz to 4MHz.", 17 PGOOD (oc) "Power Good Pin. This common drain-logic output is pulled to GND when the output voltage of either regulator is -6% below regulation. If either RUN1 or RUN2 is low (the respective regulator is in sleep mode and therefore the (See Datasheet)", 18 SW2 (power) "Switch Node Connection to the Inductor for the 1A Regulator. This pin swings from VIN2 to PGND2.", 19 SYNC/MODE (in) "Combination Mode Selection and Oscillator Synchronization Pin. This pin controls the operation of the device. When the voltage on the SYNC/MODE pin is >(VIN - 0.5V), Burst Mode operation is selected. When the voltage on the (See Datasheet)", 20 PGND2 (power) "TSSOP Package Only. Ground for SW2 N-channel driver and digital ground for circuit.", 21 EP (power) "PGND2, GNDD. Ground for SW2 N-channel driver and digital ground for circuit. The Exposed Pad must be soldered to PCB ground."

## LTC3418EUHF
designator U?
8 A, 4 MHz, Monolithic Synchronous Step-Down Regulator, 38-pin QFN (UHF-38), -40 to 85 degC; Manufacturer: Linear Technology; PartNumber: LTC3418EUHF; Frequency Sync Range: 300kHz - 4MHz; Number of Outputs: 1; DatasheetVersion: Rev. B; PackageVersion: Rev. C, 06/2010; PackageReference: UHF-38; PackageDescription: 38-Pin Plastic QFN, Body 7 x 5 mm, Pitch 0.5 mm; RoHS: FALSE; Mounting Technology: Surface Mount; Code_JEDEC: MO-220; ComponentLink1Description: Manufacturer URL; ComponentLink1URL: http://www.linear.com/; ComponentLink2Description: Datasheet; ComponentLink2URL: http://cds.linear.com/docs/en/datasheet/3418fb.pdf; ComponentLink3Description: Package Specification; ComponentLink3URL: http://cds.linear.com/docs/en/packaging/QFN_38_05-08-1701.pdf
footprint LT-UHF-38_N (QFN, 38-Leads, Body 7.1x5.1mm, Pitch 0.5mm, Thermal Pad 3.15x5.15mm, IPC Medium Density)
footprint LT-UHF-38_L (QFN, 38-Leads, Body 7.1x5.1mm, Pitch 0.5mm, Thermal Pad 3.15x5.15mm, IPC High Density)
footprint LT-UHF-38_M (QFN, 38-Leads, Body 7.1x5.1mm, Pitch 0.5mm, Thermal Pad 3.15x5.15mm, IPC Low Density)
part A pins: 1 SW (power) "Switch Node Connection to Inductor. This pin connects to the drains of the internal main and synchronous power MOSFET switches.", 2 SW (power) "Switch Node Connection to Inductor. This pin connects to the drains of the internal main and synchronous power MOSFET switches.", 3 PVIN (power) "Power Input Supply. Decouple these pins to PGND with capacitors on all four corners of the package.", 4 PVIN (power) "Power Input Supply. Decouple these pins to PGND with capacitors on all four corners of the package.", 5 PGOOD (oc) "Power Good Output. Open-drain logic output that is pulled to ground when the output voltage is not within +/-7.5% of regulation point.", 6 RT "Oscillator Resistor Input. Connecting a resistor to ground from this pin sets the switching frequency.", 7 RUN/SS (in) "Run Control and Soft-Start Input. Forcing this pin below 0.5V shuts down the LTC3418. In shutdown all functions are disabled drawing <1.5uA of supply current. A capacitor to ground from this pin sets the ramp time to full (See Datasheet)", 9 PVIN (power) "Power Input Supply. Decouple these pins to PGND with capacitors on all four corners of the package.", 10 PVIN (power) "Power Input Supply. Decouple these pins to PGND with capacitors on all four corners of the package.", 11 SW (power) "Switch Node Connection to Inductor. This pin connects to the drains of the internal main and synchronous power MOSFET switches.", 12 SW (power) "Switch Node Connection to Inductor. This pin connects to the drains of the internal main and synchronous power MOSFET switches.", 16 VREF (out) "Reference Output. Decouple this pin with a 2.2uF capacitor.", 20 SW (power) "Switch Node Connection to Inductor. This pin connects to the drains of the internal main and synchronous power MOSFET switches.", 21 SW (power) "Switch Node Connection to Inductor. This pin connects to the drains of the internal main and synchronous power MOSFET switches.", 22 PVIN (power) "Power Input Supply. Decouple these pins to PGND with capacitors on all four corners of the package.", 23 PVIN (power) "Power Input Supply. Decouple these pins to PGND with capacitors on all four corners of the package.", 24 SVIN (power) "Signal Input Supply. Decouple this pin to SGND with a capacitor.", 25 VFB (in) "Feedback Pin. Receives the feedback voltage from a resistive divider connected across the output.", 26 ITH "Error Amplifier Compensation Point. The current comparator threshold increases with this control voltage. Nominal voltage range for this pin is from 0.2V to 1.4V with 0.4V corresponding to the zero-sense voltage (zero (See Datasheet)", 27 SYNC/MODE (in) "Mode Select and External Clock Synchronization Input. To select Forced Continuous, tie to SVIN. Connecting this pin to a voltage between 0V and 1V selects Burst Mode operation with the burst clamp set to the pin voltage.", 28 PVIN (power) "Power Input Supply. Decouple these pins to PGND with capacitors on all four corners of the package.", 29 PVIN (power) "Power Input Supply. Decouple these pins to PGND with capacitors on all four corners of the package.", 30 SW (power) "Switch Node Connection to Inductor. This pin connects to the drains of the internal main and synchronous power MOSFET switches.", 31 SW (power) "Switch Node Connection to Inductor. This pin connects to the drains of the internal main and synchronous power MOSFET switches.", 35 TRACK (in) "Voltage Tracking Input. Feedback voltage will regulate to the voltage on this pin during start-up power sequencing."
part B pins: 8 SGND (power) "Signal Ground. All small-signal components and compensation components should connect to this ground, which in turn connects to PGND at one point.", 13 PGND (power) "Power Ground. Connect this pin closely to the (-) terminal of CIN and COUT.", 14 PGND (power) "Power Ground. Connect this pin closely to the (-) terminal of CIN and COUT.", 15 PGND (power) "Power Ground. Connect this pin closely to the (-) terminal of CIN and COUT.", 17 PGND (power) "Power Ground. Connect this pin closely to the (-) terminal of CIN and COUT.", 18 PGND (power) "Power Ground. Connect this pin closely to the (-) terminal of CIN and COUT.", 19 PGND (power) "Power Ground. Connect this pin closely to the (-) terminal of CIN and COUT.", 32 PGND (power) "Power Ground. Connect this pin closely to the (-) terminal of CIN and COUT.", 33 PGND (power) "Power Ground. Connect this pin closely to the (-) terminal of CIN and COUT.", 34 PGND (power) "Power Ground. Connect this pin closely to the (-) terminal of CIN and COUT.", 36 PGND (power) "Power Ground. Connect this pin closely to the (-) terminal of CIN and COUT.", 37 PGND (power) "Power Ground. Connect this pin closely to the (-) terminal of CIN and COUT.", 38 PGND (power) "Power Ground. Connect this pin closely to the (-) terminal of CIN and COUT.", 39 EP (power) "The Exposed Pad is PGND and must be soldered to the PCB ground for electrical connection and rated thermal performance."